# Altium footprint library ESP32-S3_Super_Mini.PcbLib: 1 footprints
Each footprint in its own frame and in the unit in brackets; x right, y up, seen from the top. Pads: shape width x height; smd on the part's side, far side on the other; paste and mask are expansions set on the pad; w line width, h text height; cw(c..) or ccw(c..) is an arc to the next point about the centre after c.
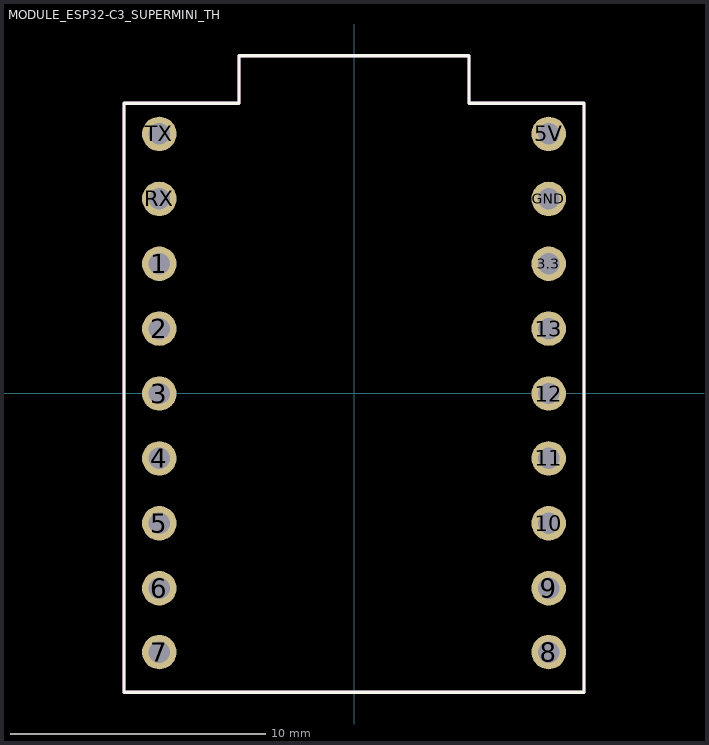
[diagram p0: the footprint, top view; thin cyan lines are the x and y axes]

## MODULE_ESP32-C3_SUPERMINI_TH [mm]
pads (18):
  round 1.348 hole 0.84: 1(-7.62,5.07) 2(-7.62,2.53) 3(-7.62,-0.01) 3.3(7.62,5.07) 4(-7.62,-2.55) 5(-7.62,-5.09) 5V(7.62,10.15) 6(-7.62,-7.63) 7(-7.62,-10.13) 8(7.62,-10.13) 9(7.62,-7.63) 10(7.62,-5.09) 11(7.62,-2.55) 12(7.62,-0.01) 13(7.62,2.53) GND(7.62,7.61) RX(-7.62,7.61) TX(-7.62,10.15)
Top Overlay:
  lines w0.127: -9,-11.7 -9,11.35 -4.5,11.35 -4.5,13.208 4.5,13.208 4.5,11.35 9,11.35 9,-11.7 -9,-11.7
Assembly Top:
  lines w0.127: -9,-11.7 -9,11.35 -4.5,11.35 -4.5,13.208 4.5,13.208 4.5,11.35 9,11.35 9,-11.7 -9,-11.7
3D body "ESP32 S3 SUPERMINI--3DModel-STEP-418109.STEP": height 4.88, standoff 0, extent -9,-11.75 9,13.2